# EAGLE library part AP65211A (library SOT95P280X140-6N)
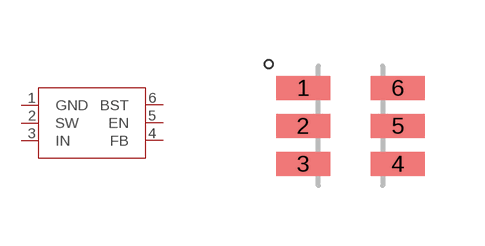
[diagram p0: symbol with the pads of SOT95P280X140-6N; footprint SOT95P280X140-6N]

Designator prefix -

## AP65211A  [SOT95P280X140-6N]
1  GND
2  SW
3  IN
4  FB
5  EN
6  BST

## Footprint SOT95P280X140-6N (pad centres in mm)
smd 1.35 x 0.6: 1 -1.185,0.95; 2 -1.185,0; 3 -1.185,-0.95; 4 1.185,-0.95; 5 1.185,0; 6 1.185,0.95